# Altium footprint library Connector_Phoenix_MC_HighVoltage.PcbLib: 66 footprints (part 3 of 5)
Each footprint in its own frame and in the unit in brackets; x right, y up, seen from the top. Pads: shape width x height; smd on the part's side, far side on the other; paste and mask are expansions set on the pad; w line width, h text height; cw(c..) or ccw(c..) is an arc to the next point about the centre after c.
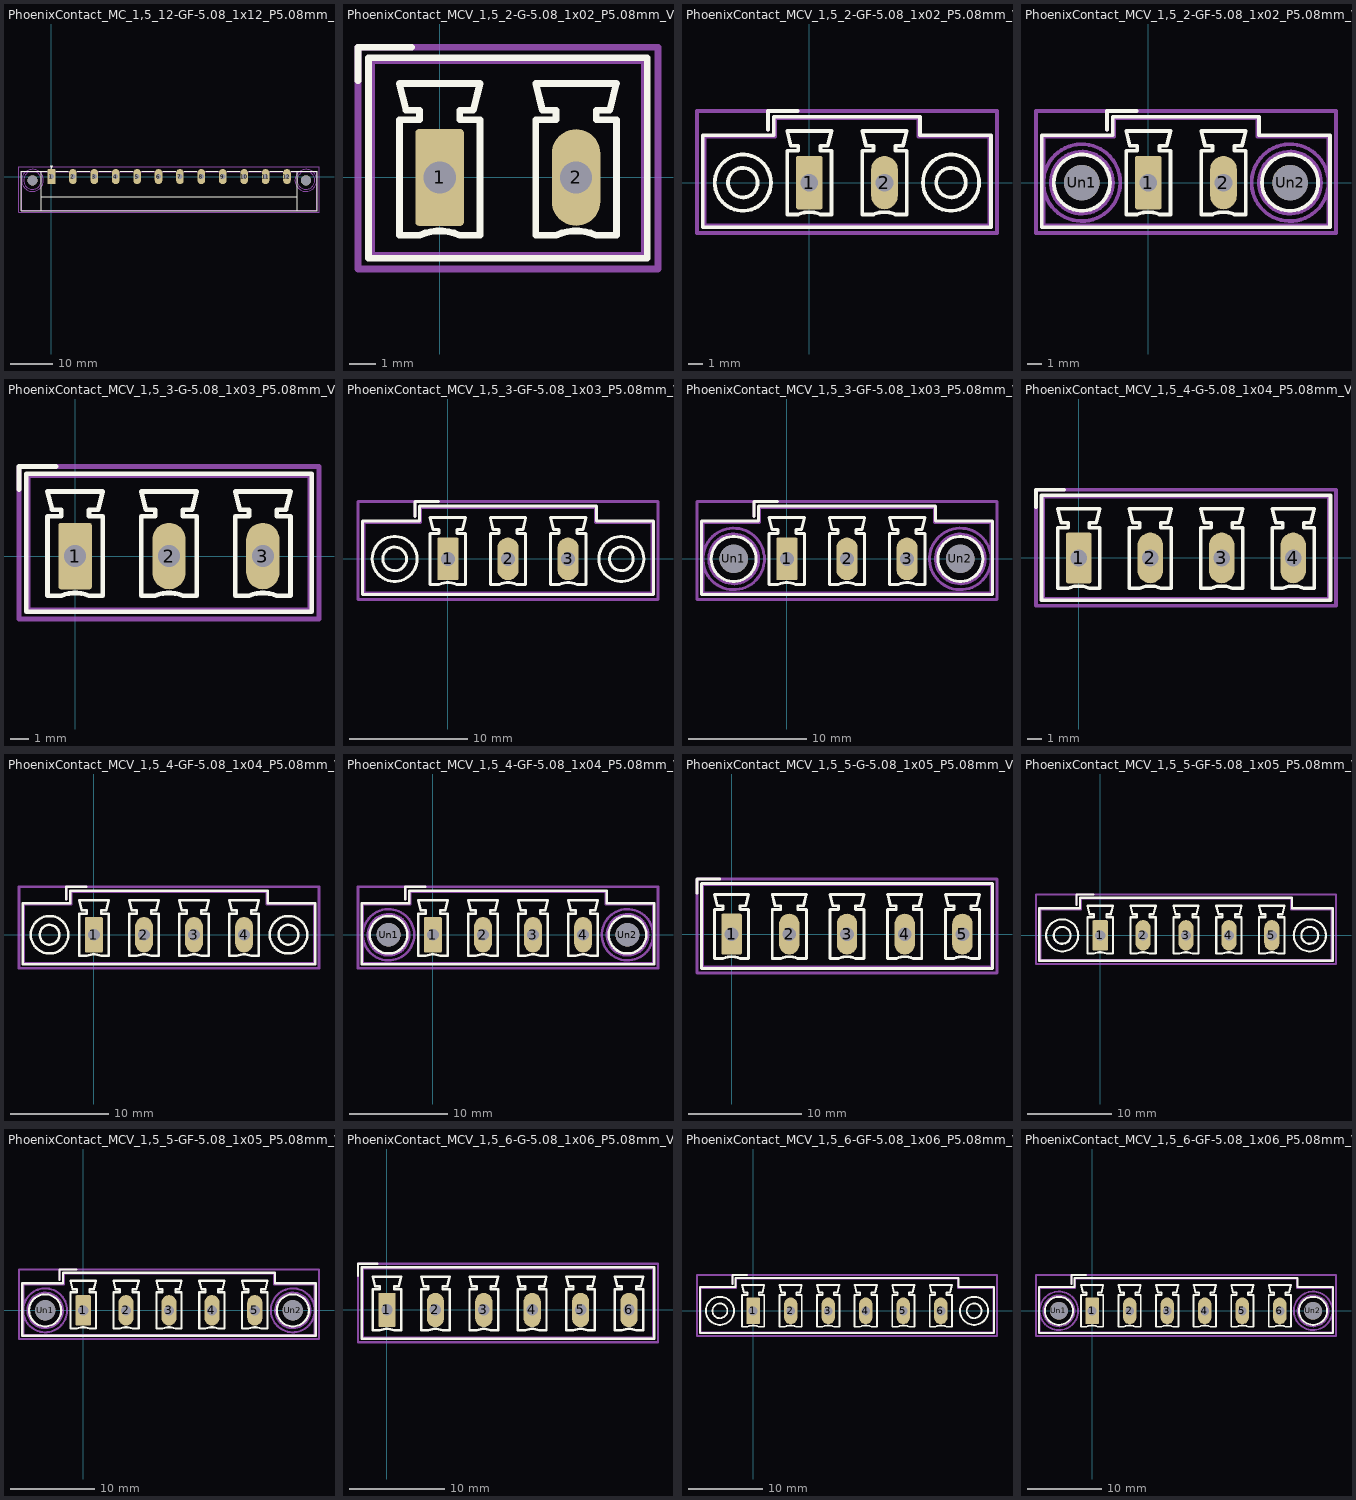
[diagram p2: the footprints below, top view; thin cyan lines are the x and y axes]

## PhoenixContact_MC_1,5_12-GF-5.08_1x12_P5.08mm_Horizontal_ThreadedFlange_MountHole [mm]
pads (14):
  rrect14% 1.8x3.6 hole 1.2: 1(0,0)
  rrect100% 1.8x3.6 hole 1.2: 2(5.08,0) 3(10.16,0) 4(15.24,0) 5(20.32,0) 6(25.4,0) 7(30.48,0) 8(35.56,0) 9(40.64,0) 10(45.72,0) 11(50.8,0) 12(55.88,0)
  round 2.4 hole 2.4: Un1(-4.5,-0.9) Un2(60.38,-0.9)
F.SilkS:
  lines w0.254: -2.41,-8.11 -2.41,1.31 ; -2.41,-4.8 58.29,-4.8 ; -1.05,1.31 -7.21,1.31 -7.21,-8.11 63.09,-8.11 63.09,1.31 56.93,1.31 ; 1.05,1.31 4.03,1.31 ; 6.13,1.31 9.11,1.31 ; 11.21,1.31 14.19,1.31 ; 16.29,1.31 19.27,1.31 ; 21.37,1.31 24.35,1.31 ; 26.45,1.31 29.43,1.31 ; 31.53,1.31 34.51,1.31 ; 36.61,1.31 39.59,1.31 ; 41.69,1.31 44.67,1.31 ; 46.77,1.31 49.75,1.31 ; 51.85,1.31 54.83,1.31 ; 58.29,-8.11 58.29,1.31 ; -0.3,2.6 0,2 0.3,2.6 -0.3,2.6
B.SilkS:
  circle w0.254: c60.38,-0.9 r2.21
  circle w0.254: c-4.5,-0.9 r2.21
Top Assembly:
  lines w0.254: -0.8,1.2 0,0 0.8,1.2 ; -7.1,-8 62.98,-8 62.98,1.2 -7.1,1.2 -7.1,-8
  text "'.Designator'" at 23.893,-0.34 h1
Bottom Assembly:
  circle w0.254: c60.38,-0.9 r2.1
  circle w0.254: c-4.5,-0.9 r2.1
Top Courtyard:
  lines w0.254: -7.71,-8.5 63.48,-8.5 63.48,2.3 -7.71,2.3 -7.71,-8.5
Bottom Courtyard:
  circle w0.254: c60.38,-0.9 r2.6
  circle w0.254: c-4.5,-0.9 r2.6
Top Designator:
  text ".Designator" at 20.267,-3.458 h1.52

## PhoenixContact_MCV_1,5_2-G-5.08_1x02_P5.08mm_Vertical [mm]
pads (2):
  rrect14% 1.8x3.6 hole 1.2: 1(0,0)
  rrect100% 1.8x3.6 hole 1.2: 2(5.08,0)
F.SilkS:
  lines w0.254: -3.04,3.6 -3.04,4.85 -1.04,4.85 ; 0.75,-2.15 ccw(c0,-3.85) -0.75,-2.15 -1.5,-2.15 -1.5,2.15 -0.75,2.15 -0.75,2.5 -1.25,2.5 -1.5,3.5 1.5,3.5 1.25,2.5 0.75,2.5 0.75,2.15 1.5,2.15 1.5,-2.15 0.75,-2.15 ; 5.83,-2.15 ccw(c5.08,-3.85) 4.33,-2.15 3.58,-2.15 3.58,2.15 4.33,2.15 4.33,2.5 3.83,2.5 3.58,3.5 6.58,3.5 6.33,2.5 5.83,2.5 5.83,2.15 6.58,2.15 6.58,-2.15 5.83,-2.15 ; -2.65,-3.01 7.73,-3.01 7.73,4.46 -2.65,4.46 -2.65,-3.01
Top Assembly:
  lines w0.254: -3.04,3.6 -3.04,4.85 -1.04,4.85 ; -2.54,-2.9 7.62,-2.9 7.62,4.35 -2.54,4.35 -2.54,-2.9
  text "'.Designator'" at -1.507,2.81 h1
Top Courtyard:
  lines w0.254: -3.04,-3.41 8.13,-3.41 8.13,4.85 -3.04,4.85 -3.04,-3.41
Top Designator:
  text ".Designator" at -5.073,0.212 h1.52

## PhoenixContact_MCV_1,5_2-GF-5.08_1x02_P5.08mm_Vertical_ThreadedFlange [mm]
pads (2):
  rrect14% 1.8x3.6 hole 1.2: 1(0,0)
  rrect100% 1.8x3.6 hole 1.2: 2(5.08,0)
F.SilkS:
  circle w0.254: c9.58,0 r1.9
  circle w0.254: c9.58,0 r1
  circle w0.254: c-4.5,0 r1.9
  circle w0.254: c-4.5,0 r1
  lines w0.254: -2.8,3.6 -2.8,4.85 -0.8,4.85 ; 0.75,-2.15 ccw(c0,-3.85) -0.75,-2.15 -1.5,-2.15 -1.5,2.15 -0.75,2.15 -0.75,2.5 -1.25,2.5 -1.5,3.5 1.5,3.5 1.25,2.5 0.75,2.5 0.75,2.15 1.5,2.15 1.5,-2.15 0.75,-2.15 ; 5.83,-2.15 ccw(c5.08,-3.85) 4.33,-2.15 3.58,-2.15 3.58,2.15 4.33,2.15 4.33,2.5 3.83,2.5 3.58,3.5 6.58,3.5 6.33,2.5 5.83,2.5 5.83,2.15 6.58,2.15 6.58,-2.15 5.83,-2.15 ; -7.21,-3.01 12.29,-3.01 12.29,3.21 7.49,3.21 7.49,4.46 -2.41,4.46 -2.41,3.21 -7.21,3.21 -7.21,-3.01
Top Assembly:
  lines w0.254: -2.8,3.6 -2.8,4.85 -0.8,4.85 ; -7.1,-2.9 12.18,-2.9 12.18,3.1 7.38,3.1 7.38,4.35 -2.3,4.35 -2.3,3.1 -7.1,3.1 -7.1,-2.9
  text "'.Designator'" at -1.507,2.81 h1
Top Courtyard:
  lines w0.254: -7.6,-3.41 12.69,-3.41 12.69,4.85 -7.6,4.85 -7.6,-3.41
Top Designator:
  text ".Designator" at -5.073,0.212 h1.52

## PhoenixContact_MCV_1,5_2-GF-5.08_1x02_P5.08mm_Vertical_ThreadedFlange_MountHole [mm]
pads (4):
  rrect14% 1.8x3.6 hole 1.2: 1(0,0)
  rrect100% 1.8x3.6 hole 1.2: 2(5.08,0)
  round 2.4 hole 2.4: Un1(-4.5,0) Un2(9.58,0)
F.SilkS:
  circle w0.254: c9.58,0 r1.9
  circle w0.254: c-4.5,0 r1.9
  lines w0.254: -2.8,3.6 -2.8,4.85 -0.8,4.85 ; 0.75,-2.15 ccw(c0,-3.85) -0.75,-2.15 -1.5,-2.15 -1.5,2.15 -0.75,2.15 -0.75,2.5 -1.25,2.5 -1.5,3.5 1.5,3.5 1.25,2.5 0.75,2.5 0.75,2.15 1.5,2.15 1.5,-2.15 0.75,-2.15 ; 5.83,-2.15 ccw(c5.08,-3.85) 4.33,-2.15 3.58,-2.15 3.58,2.15 4.33,2.15 4.33,2.5 3.83,2.5 3.58,3.5 6.58,3.5 6.33,2.5 5.83,2.5 5.83,2.15 6.58,2.15 6.58,-2.15 5.83,-2.15 ; -7.21,-3.01 12.29,-3.01 12.29,3.21 7.49,3.21 7.49,4.46 -2.41,4.46 -2.41,3.21 -7.21,3.21 -7.21,-3.01
B.SilkS:
  circle w0.254: c9.58,0 r2.21
  circle w0.254: c-4.5,0 r2.21
Top Assembly:
  lines w0.254: -2.8,3.6 -2.8,4.85 -0.8,4.85 ; -7.1,-2.9 12.18,-2.9 12.18,3.1 7.38,3.1 7.38,4.35 -2.3,4.35 -2.3,3.1 -7.1,3.1 -7.1,-2.9
  text "'.Designator'" at -1.507,2.81 h1
Bottom Assembly:
  circle w0.254: c9.58,0 r2.1
  circle w0.254: c-4.5,0 r2.1
Top Courtyard:
  lines w0.254: -7.6,-3.41 12.69,-3.41 12.69,4.85 -7.6,4.85 -7.6,-3.41
Bottom Courtyard:
  circle w0.254: c9.58,0 r2.6
  circle w0.254: c-4.5,0 r2.6
Top Designator:
  text ".Designator" at -5.073,0.212 h1.52

## PhoenixContact_MCV_1,5_3-G-5.08_1x03_P5.08mm_Vertical [mm]
pads (3):
  rrect14% 1.8x3.6 hole 1.2: 1(0,0)
  rrect100% 1.8x3.6 hole 1.2: 2(5.08,0) 3(10.16,0)
F.SilkS:
  lines w0.254: -3.04,3.6 -3.04,4.85 -1.04,4.85 ; 0.75,-2.15 ccw(c0,-3.85) -0.75,-2.15 -1.5,-2.15 -1.5,2.15 -0.75,2.15 -0.75,2.5 -1.25,2.5 -1.5,3.5 1.5,3.5 1.25,2.5 0.75,2.5 0.75,2.15 1.5,2.15 1.5,-2.15 0.75,-2.15 ; 5.83,-2.15 ccw(c5.08,-3.85) 4.33,-2.15 3.58,-2.15 3.58,2.15 4.33,2.15 4.33,2.5 3.83,2.5 3.58,3.5 6.58,3.5 6.33,2.5 5.83,2.5 5.83,2.15 6.58,2.15 6.58,-2.15 5.83,-2.15 ; 10.91,-2.15 ccw(c10.16,-3.85) 9.41,-2.15 8.66,-2.15 8.66,2.15 9.41,2.15 9.41,2.5 8.91,2.5 8.66,3.5 11.66,3.5 11.41,2.5 10.91,2.5 10.91,2.15 11.66,2.15 11.66,-2.15 10.91,-2.15 ; -2.65,-3.01 12.81,-3.01 12.81,4.46 -2.65,4.46 -2.65,-3.01
Top Assembly:
  lines w0.254: -3.04,3.6 -3.04,4.85 -1.04,4.85 ; -2.54,-2.9 12.7,-2.9 12.7,4.35 -2.54,4.35 -2.54,-2.9
  text "'.Designator'" at 1.033,2.81 h1
Top Courtyard:
  lines w0.254: -3.04,-3.41 13.2,-3.41 13.2,4.85 -3.04,4.85 -3.04,-3.41
Top Designator:
  text ".Designator" at -2.538,0.212 h1.52

## PhoenixContact_MCV_1,5_3-GF-5.08_1x03_P5.08mm_Vertical_ThreadedFlange [mm]
pads (3):
  rrect14% 1.8x3.6 hole 1.2: 1(0,0)
  rrect100% 1.8x3.6 hole 1.2: 2(5.08,0) 3(10.16,0)
F.SilkS:
  circle w0.254: c14.66,0 r1.9
  circle w0.254: c14.66,0 r1
  circle w0.254: c-4.5,0 r1.9
  circle w0.254: c-4.5,0 r1
  lines w0.254: -2.8,3.6 -2.8,4.85 -0.8,4.85 ; 0.75,-2.15 ccw(c0,-3.85) -0.75,-2.15 -1.5,-2.15 -1.5,2.15 -0.75,2.15 -0.75,2.5 -1.25,2.5 -1.5,3.5 1.5,3.5 1.25,2.5 0.75,2.5 0.75,2.15 1.5,2.15 1.5,-2.15 0.75,-2.15 ; 5.83,-2.15 ccw(c5.08,-3.85) 4.33,-2.15 3.58,-2.15 3.58,2.15 4.33,2.15 4.33,2.5 3.83,2.5 3.58,3.5 6.58,3.5 6.33,2.5 5.83,2.5 5.83,2.15 6.58,2.15 6.58,-2.15 5.83,-2.15 ; 10.91,-2.15 ccw(c10.16,-3.85) 9.41,-2.15 8.66,-2.15 8.66,2.15 9.41,2.15 9.41,2.5 8.91,2.5 8.66,3.5 11.66,3.5 11.41,2.5 10.91,2.5 10.91,2.15 11.66,2.15 11.66,-2.15 10.91,-2.15 ; -7.21,-3.01 17.37,-3.01 17.37,3.21 12.57,3.21 12.57,4.46 -2.41,4.46 -2.41,3.21 -7.21,3.21 -7.21,-3.01
Top Assembly:
  lines w0.254: -2.8,3.6 -2.8,4.85 -0.8,4.85 ; -7.1,-2.9 17.26,-2.9 17.26,3.1 12.46,3.1 12.46,4.35 -2.3,4.35 -2.3,3.1 -7.1,3.1 -7.1,-2.9
  text "'.Designator'" at 1.033,2.81 h1
Top Courtyard:
  lines w0.254: -7.6,-3.41 17.76,-3.41 17.76,4.85 -7.6,4.85 -7.6,-3.41
Top Designator:
  text ".Designator" at -2.538,0.212 h1.52

## PhoenixContact_MCV_1,5_3-GF-5.08_1x03_P5.08mm_Vertical_ThreadedFlange_MountHole [mm]
pads (5):
  rrect14% 1.8x3.6 hole 1.2: 1(0,0)
  rrect100% 1.8x3.6 hole 1.2: 2(5.08,0) 3(10.16,0)
  round 2.4 hole 2.4: Un1(-4.5,0) Un2(14.66,0)
F.SilkS:
  circle w0.254: c14.66,0 r1.9
  circle w0.254: c-4.5,0 r1.9
  lines w0.254: -2.8,3.6 -2.8,4.85 -0.8,4.85 ; 0.75,-2.15 ccw(c0,-3.85) -0.75,-2.15 -1.5,-2.15 -1.5,2.15 -0.75,2.15 -0.75,2.5 -1.25,2.5 -1.5,3.5 1.5,3.5 1.25,2.5 0.75,2.5 0.75,2.15 1.5,2.15 1.5,-2.15 0.75,-2.15 ; 5.83,-2.15 ccw(c5.08,-3.85) 4.33,-2.15 3.58,-2.15 3.58,2.15 4.33,2.15 4.33,2.5 3.83,2.5 3.58,3.5 6.58,3.5 6.33,2.5 5.83,2.5 5.83,2.15 6.58,2.15 6.58,-2.15 5.83,-2.15 ; 10.91,-2.15 ccw(c10.16,-3.85) 9.41,-2.15 8.66,-2.15 8.66,2.15 9.41,2.15 9.41,2.5 8.91,2.5 8.66,3.5 11.66,3.5 11.41,2.5 10.91,2.5 10.91,2.15 11.66,2.15 11.66,-2.15 10.91,-2.15 ; -7.21,-3.01 17.37,-3.01 17.37,3.21 12.57,3.21 12.57,4.46 -2.41,4.46 -2.41,3.21 -7.21,3.21 -7.21,-3.01
B.SilkS:
  circle w0.254: c14.66,0 r2.21
  circle w0.254: c-4.5,0 r2.21
Top Assembly:
  lines w0.254: -2.8,3.6 -2.8,4.85 -0.8,4.85 ; -7.1,-2.9 17.26,-2.9 17.26,3.1 12.46,3.1 12.46,4.35 -2.3,4.35 -2.3,3.1 -7.1,3.1 -7.1,-2.9
  text "'.Designator'" at 1.033,2.81 h1
Bottom Assembly:
  circle w0.254: c14.66,0 r2.1
  circle w0.254: c-4.5,0 r2.1
Top Courtyard:
  lines w0.254: -7.6,-3.41 17.76,-3.41 17.76,4.85 -7.6,4.85 -7.6,-3.41
Bottom Courtyard:
  circle w0.254: c14.66,0 r2.6
  circle w0.254: c-4.5,0 r2.6
Top Designator:
  text ".Designator" at -2.538,0.212 h1.52

## PhoenixContact_MCV_1,5_4-G-5.08_1x04_P5.08mm_Vertical [mm]
pads (4):
  rrect14% 1.8x3.6 hole 1.2: 1(0,0)
  rrect100% 1.8x3.6 hole 1.2: 2(5.08,0) 3(10.16,0) 4(15.24,0)
F.SilkS:
  lines w0.254: -3.04,3.6 -3.04,4.85 -1.04,4.85 ; 0.75,-2.15 ccw(c0,-3.85) -0.75,-2.15 -1.5,-2.15 -1.5,2.15 -0.75,2.15 -0.75,2.5 -1.25,2.5 -1.5,3.5 1.5,3.5 1.25,2.5 0.75,2.5 0.75,2.15 1.5,2.15 1.5,-2.15 0.75,-2.15 ; 5.83,-2.15 ccw(c5.08,-3.85) 4.33,-2.15 3.58,-2.15 3.58,2.15 4.33,2.15 4.33,2.5 3.83,2.5 3.58,3.5 6.58,3.5 6.33,2.5 5.83,2.5 5.83,2.15 6.58,2.15 6.58,-2.15 5.83,-2.15 ; 10.91,-2.15 ccw(c10.16,-3.85) 9.41,-2.15 8.66,-2.15 8.66,2.15 9.41,2.15 9.41,2.5 8.91,2.5 8.66,3.5 11.66,3.5 11.41,2.5 10.91,2.5 10.91,2.15 11.66,2.15 11.66,-2.15 10.91,-2.15 ; 15.99,-2.15 ccw(c15.24,-3.85) 14.49,-2.15 13.74,-2.15 13.74,2.15 14.49,2.15 14.49,2.5 13.99,2.5 13.74,3.5 16.74,3.5 16.49,2.5 15.99,2.5 15.99,2.15 16.74,2.15 16.74,-2.15 15.99,-2.15 ; -2.65,-3.01 17.89,-3.01 17.89,4.46 -2.65,4.46 -2.65,-3.01
Top Assembly:
  lines w0.254: -3.04,3.6 -3.04,4.85 -1.04,4.85 ; -2.54,-2.9 17.78,-2.9 17.78,4.35 -2.54,4.35 -2.54,-2.9
  text "'.Designator'" at 3.573,2.81 h1
Top Courtyard:
  lines w0.254: -3.04,-3.41 18.28,-3.41 18.28,4.85 -3.04,4.85 -3.04,-3.41
Top Designator:
  text ".Designator" at 0.002,0.212 h1.52

## PhoenixContact_MCV_1,5_4-GF-5.08_1x04_P5.08mm_Vertical_ThreadedFlange [mm]
pads (4):
  rrect14% 1.8x3.6 hole 1.2: 1(0,0)
  rrect100% 1.8x3.6 hole 1.2: 2(5.08,0) 3(10.16,0) 4(15.24,0)
F.SilkS:
  circle w0.254: c19.74,0 r1.9
  circle w0.254: c19.74,0 r1
  circle w0.254: c-4.5,0 r1.9
  circle w0.254: c-4.5,0 r1
  lines w0.254: -2.8,3.6 -2.8,4.85 -0.8,4.85 ; 0.75,-2.15 ccw(c0,-3.85) -0.75,-2.15 -1.5,-2.15 -1.5,2.15 -0.75,2.15 -0.75,2.5 -1.25,2.5 -1.5,3.5 1.5,3.5 1.25,2.5 0.75,2.5 0.75,2.15 1.5,2.15 1.5,-2.15 0.75,-2.15 ; 5.83,-2.15 ccw(c5.08,-3.85) 4.33,-2.15 3.58,-2.15 3.58,2.15 4.33,2.15 4.33,2.5 3.83,2.5 3.58,3.5 6.58,3.5 6.33,2.5 5.83,2.5 5.83,2.15 6.58,2.15 6.58,-2.15 5.83,-2.15 ; 10.91,-2.15 ccw(c10.16,-3.85) 9.41,-2.15 8.66,-2.15 8.66,2.15 9.41,2.15 9.41,2.5 8.91,2.5 8.66,3.5 11.66,3.5 11.41,2.5 10.91,2.5 10.91,2.15 11.66,2.15 11.66,-2.15 10.91,-2.15 ; 15.99,-2.15 ccw(c15.24,-3.85) 14.49,-2.15 13.74,-2.15 13.74,2.15 14.49,2.15 14.49,2.5 13.99,2.5 13.74,3.5 16.74,3.5 16.49,2.5 15.99,2.5 15.99,2.15 16.74,2.15 16.74,-2.15 15.99,-2.15 ; -7.21,-3.01 22.45,-3.01 22.45,3.21 17.65,3.21 17.65,4.46 -2.41,4.46 -2.41,3.21 -7.21,3.21 -7.21,-3.01
Top Assembly:
  lines w0.254: -2.8,3.6 -2.8,4.85 -0.8,4.85 ; -7.1,-2.9 22.34,-2.9 22.34,3.1 17.54,3.1 17.54,4.35 -2.3,4.35 -2.3,3.1 -7.1,3.1 -7.1,-2.9
  text "'.Designator'" at 3.573,2.81 h1
Top Courtyard:
  lines w0.254: -7.6,-3.41 22.84,-3.41 22.84,4.85 -7.6,4.85 -7.6,-3.41
Top Designator:
  text ".Designator" at 0.002,0.212 h1.52

## PhoenixContact_MCV_1,5_4-GF-5.08_1x04_P5.08mm_Vertical_ThreadedFlange_MountHole [mm]
pads (6):
  rrect14% 1.8x3.6 hole 1.2: 1(0,0)
  rrect100% 1.8x3.6 hole 1.2: 2(5.08,0) 3(10.16,0) 4(15.24,0)
  round 2.4 hole 2.4: Un1(-4.5,0) Un2(19.74,0)
F.SilkS:
  circle w0.254: c19.74,0 r1.9
  circle w0.254: c-4.5,0 r1.9
  lines w0.254: -2.8,3.6 -2.8,4.85 -0.8,4.85 ; 0.75,-2.15 ccw(c0,-3.85) -0.75,-2.15 -1.5,-2.15 -1.5,2.15 -0.75,2.15 -0.75,2.5 -1.25,2.5 -1.5,3.5 1.5,3.5 1.25,2.5 0.75,2.5 0.75,2.15 1.5,2.15 1.5,-2.15 0.75,-2.15 ; 5.83,-2.15 ccw(c5.08,-3.85) 4.33,-2.15 3.58,-2.15 3.58,2.15 4.33,2.15 4.33,2.5 3.83,2.5 3.58,3.5 6.58,3.5 6.33,2.5 5.83,2.5 5.83,2.15 6.58,2.15 6.58,-2.15 5.83,-2.15 ; 10.91,-2.15 ccw(c10.16,-3.85) 9.41,-2.15 8.66,-2.15 8.66,2.15 9.41,2.15 9.41,2.5 8.91,2.5 8.66,3.5 11.66,3.5 11.41,2.5 10.91,2.5 10.91,2.15 11.66,2.15 11.66,-2.15 10.91,-2.15 ; 15.99,-2.15 ccw(c15.24,-3.85) 14.49,-2.15 13.74,-2.15 13.74,2.15 14.49,2.15 14.49,2.5 13.99,2.5 13.74,3.5 16.74,3.5 16.49,2.5 15.99,2.5 15.99,2.15 16.74,2.15 16.74,-2.15 15.99,-2.15 ; -7.21,-3.01 22.45,-3.01 22.45,3.21 17.65,3.21 17.65,4.46 -2.41,4.46 -2.41,3.21 -7.21,3.21 -7.21,-3.01
B.SilkS:
  circle w0.254: c19.74,0 r2.21
  circle w0.254: c-4.5,0 r2.21
Top Assembly:
  lines w0.254: -2.8,3.6 -2.8,4.85 -0.8,4.85 ; -7.1,-2.9 22.34,-2.9 22.34,3.1 17.54,3.1 17.54,4.35 -2.3,4.35 -2.3,3.1 -7.1,3.1 -7.1,-2.9
  text "'.Designator'" at 3.573,2.81 h1
Bottom Assembly:
  circle w0.254: c19.74,0 r2.1
  circle w0.254: c-4.5,0 r2.1
Top Courtyard:
  lines w0.254: -7.6,-3.41 22.84,-3.41 22.84,4.85 -7.6,4.85 -7.6,-3.41
Bottom Courtyard:
  circle w0.254: c19.74,0 r2.6
  circle w0.254: c-4.5,0 r2.6
Top Designator:
  text ".Designator" at 0.002,0.212 h1.52

## PhoenixContact_MCV_1,5_5-G-5.08_1x05_P5.08mm_Vertical [mm]
pads (5):
  rrect14% 1.8x3.6 hole 1.2: 1(0,0)
  rrect100% 1.8x3.6 hole 1.2: 2(5.08,0) 3(10.16,0) 4(15.24,0) 5(20.32,0)
F.SilkS:
  lines w0.254: -3.04,3.6 -3.04,4.85 -1.04,4.85 ; 0.75,-2.15 ccw(c0,-3.85) -0.75,-2.15 -1.5,-2.15 -1.5,2.15 -0.75,2.15 -0.75,2.5 -1.25,2.5 -1.5,3.5 1.5,3.5 1.25,2.5 0.75,2.5 0.75,2.15 1.5,2.15 1.5,-2.15 0.75,-2.15 ; 5.83,-2.15 ccw(c5.08,-3.85) 4.33,-2.15 3.58,-2.15 3.58,2.15 4.33,2.15 4.33,2.5 3.83,2.5 3.58,3.5 6.58,3.5 6.33,2.5 5.83,2.5 5.83,2.15 6.58,2.15 6.58,-2.15 5.83,-2.15 ; 10.91,-2.15 ccw(c10.16,-3.85) 9.41,-2.15 8.66,-2.15 8.66,2.15 9.41,2.15 9.41,2.5 8.91,2.5 8.66,3.5 11.66,3.5 11.41,2.5 10.91,2.5 10.91,2.15 11.66,2.15 11.66,-2.15 10.91,-2.15 ; 15.99,-2.15 ccw(c15.24,-3.85) 14.49,-2.15 13.74,-2.15 13.74,2.15 14.49,2.15 14.49,2.5 13.99,2.5 13.74,3.5 16.74,3.5 16.49,2.5 15.99,2.5 15.99,2.15 16.74,2.15 16.74,-2.15 15.99,-2.15 ; 21.07,-2.15 ccw(c20.32,-3.85) 19.57,-2.15 18.82,-2.15 18.82,2.15 19.57,2.15 19.57,2.5 19.07,2.5 18.82,3.5 21.82,3.5 21.57,2.5 21.07,2.5 21.07,2.15 21.82,2.15 21.82,-2.15 21.07,-2.15 ; -2.65,-3.01 22.97,-3.01 22.97,4.46 -2.65,4.46 -2.65,-3.01
Top Assembly:
  lines w0.254: -3.04,3.6 -3.04,4.85 -1.04,4.85 ; -2.54,-2.9 22.86,-2.9 22.86,4.35 -2.54,4.35 -2.54,-2.9
  text "'.Designator'" at 6.113,2.81 h1
Top Courtyard:
  lines w0.254: -3.04,-3.41 23.36,-3.41 23.36,4.85 -3.04,4.85 -3.04,-3.41
Top Designator:
  text ".Designator" at 2.542,0.212 h1.52

## PhoenixContact_MCV_1,5_5-GF-5.08_1x05_P5.08mm_Vertical_ThreadedFlange [mm]
pads (5):
  rrect14% 1.8x3.6 hole 1.2: 1(0,0)
  rrect100% 1.8x3.6 hole 1.2: 2(5.08,0) 3(10.16,0) 4(15.24,0) 5(20.32,0)
F.SilkS:
  circle w0.254: c24.82,0 r1.9
  circle w0.254: c24.82,0 r1
  circle w0.254: c-4.5,0 r1.9
  circle w0.254: c-4.5,0 r1
  lines w0.254: -2.8,3.6 -2.8,4.85 -0.8,4.85 ; 0.75,-2.15 ccw(c0,-3.85) -0.75,-2.15 -1.5,-2.15 -1.5,2.15 -0.75,2.15 -0.75,2.5 -1.25,2.5 -1.5,3.5 1.5,3.5 1.25,2.5 0.75,2.5 0.75,2.15 1.5,2.15 1.5,-2.15 0.75,-2.15 ; 5.83,-2.15 ccw(c5.08,-3.85) 4.33,-2.15 3.58,-2.15 3.58,2.15 4.33,2.15 4.33,2.5 3.83,2.5 3.58,3.5 6.58,3.5 6.33,2.5 5.83,2.5 5.83,2.15 6.58,2.15 6.58,-2.15 5.83,-2.15 ; 10.91,-2.15 ccw(c10.16,-3.85) 9.41,-2.15 8.66,-2.15 8.66,2.15 9.41,2.15 9.41,2.5 8.91,2.5 8.66,3.5 11.66,3.5 11.41,2.5 10.91,2.5 10.91,2.15 11.66,2.15 11.66,-2.15 10.91,-2.15 ; 15.99,-2.15 ccw(c15.24,-3.85) 14.49,-2.15 13.74,-2.15 13.74,2.15 14.49,2.15 14.49,2.5 13.99,2.5 13.74,3.5 16.74,3.5 16.49,2.5 15.99,2.5 15.99,2.15 16.74,2.15 16.74,-2.15 15.99,-2.15 ; 21.07,-2.15 ccw(c20.32,-3.85) 19.57,-2.15 18.82,-2.15 18.82,2.15 19.57,2.15 19.57,2.5 19.07,2.5 18.82,3.5 21.82,3.5 21.57,2.5 21.07,2.5 21.07,2.15 21.82,2.15 21.82,-2.15 21.07,-2.15 ; -7.21,-3.01 27.53,-3.01 27.53,3.21 22.73,3.21 22.73,4.46 -2.41,4.46 -2.41,3.21 -7.21,3.21 -7.21,-3.01
Top Assembly:
  lines w0.254: -2.8,3.6 -2.8,4.85 -0.8,4.85 ; -7.1,-2.9 27.42,-2.9 27.42,3.1 22.62,3.1 22.62,4.35 -2.3,4.35 -2.3,3.1 -7.1,3.1 -7.1,-2.9
  text "'.Designator'" at 6.113,2.81 h1
Top Courtyard:
  lines w0.254: -7.6,-3.41 27.92,-3.41 27.92,4.85 -7.6,4.85 -7.6,-3.41
Top Designator:
  text ".Designator" at 2.542,0.212 h1.52

## PhoenixContact_MCV_1,5_5-GF-5.08_1x05_P5.08mm_Vertical_ThreadedFlange_MountHole [mm]
pads (7):
  rrect14% 1.8x3.6 hole 1.2: 1(0,0)
  rrect100% 1.8x3.6 hole 1.2: 2(5.08,0) 3(10.16,0) 4(15.24,0) 5(20.32,0)
  round 2.4 hole 2.4: Un1(-4.5,0) Un2(24.82,0)
F.SilkS:
  circle w0.254: c24.82,0 r1.9
  circle w0.254: c-4.5,0 r1.9
  lines w0.254: -2.8,3.6 -2.8,4.85 -0.8,4.85 ; 0.75,-2.15 ccw(c0,-3.85) -0.75,-2.15 -1.5,-2.15 -1.5,2.15 -0.75,2.15 -0.75,2.5 -1.25,2.5 -1.5,3.5 1.5,3.5 1.25,2.5 0.75,2.5 0.75,2.15 1.5,2.15 1.5,-2.15 0.75,-2.15 ; 5.83,-2.15 ccw(c5.08,-3.85) 4.33,-2.15 3.58,-2.15 3.58,2.15 4.33,2.15 4.33,2.5 3.83,2.5 3.58,3.5 6.58,3.5 6.33,2.5 5.83,2.5 5.83,2.15 6.58,2.15 6.58,-2.15 5.83,-2.15 ; 10.91,-2.15 ccw(c10.16,-3.85) 9.41,-2.15 8.66,-2.15 8.66,2.15 9.41,2.15 9.41,2.5 8.91,2.5 8.66,3.5 11.66,3.5 11.41,2.5 10.91,2.5 10.91,2.15 11.66,2.15 11.66,-2.15 10.91,-2.15 ; 15.99,-2.15 ccw(c15.24,-3.85) 14.49,-2.15 13.74,-2.15 13.74,2.15 14.49,2.15 14.49,2.5 13.99,2.5 13.74,3.5 16.74,3.5 16.49,2.5 15.99,2.5 15.99,2.15 16.74,2.15 16.74,-2.15 15.99,-2.15 ; 21.07,-2.15 ccw(c20.32,-3.85) 19.57,-2.15 18.82,-2.15 18.82,2.15 19.57,2.15 19.57,2.5 19.07,2.5 18.82,3.5 21.82,3.5 21.57,2.5 21.07,2.5 21.07,2.15 21.82,2.15 21.82,-2.15 21.07,-2.15 ; -7.21,-3.01 27.53,-3.01 27.53,3.21 22.73,3.21 22.73,4.46 -2.41,4.46 -2.41,3.21 -7.21,3.21 -7.21,-3.01
B.SilkS:
  circle w0.254: c24.82,0 r2.21
  circle w0.254: c-4.5,0 r2.21
Top Assembly:
  lines w0.254: -2.8,3.6 -2.8,4.85 -0.8,4.85 ; -7.1,-2.9 27.42,-2.9 27.42,3.1 22.62,3.1 22.62,4.35 -2.3,4.35 -2.3,3.1 -7.1,3.1 -7.1,-2.9
  text "'.Designator'" at 6.113,2.81 h1
Bottom Assembly:
  circle w0.254: c24.82,0 r2.1
  circle w0.254: c-4.5,0 r2.1
Top Courtyard:
  lines w0.254: -7.6,-3.41 27.92,-3.41 27.92,4.85 -7.6,4.85 -7.6,-3.41
Bottom Courtyard:
  circle w0.254: c24.82,0 r2.6
  circle w0.254: c-4.5,0 r2.6
Top Designator:
  text ".Designator" at 2.542,0.212 h1.52

## PhoenixContact_MCV_1,5_6-G-5.08_1x06_P5.08mm_Vertical [mm]
pads (6):
  rrect14% 1.8x3.6 hole 1.2: 1(0,0)
  rrect100% 1.8x3.6 hole 1.2: 2(5.08,0) 3(10.16,0) 4(15.24,0) 5(20.32,0) 6(25.4,0)
F.SilkS:
  lines w0.254: -3.04,3.6 -3.04,4.85 -1.04,4.85 ; 0.75,-2.15 ccw(c0,-3.85) -0.75,-2.15 -1.5,-2.15 -1.5,2.15 -0.75,2.15 -0.75,2.5 -1.25,2.5 -1.5,3.5 1.5,3.5 1.25,2.5 0.75,2.5 0.75,2.15 1.5,2.15 1.5,-2.15 0.75,-2.15 ; 5.83,-2.15 ccw(c5.08,-3.85) 4.33,-2.15 3.58,-2.15 3.58,2.15 4.33,2.15 4.33,2.5 3.83,2.5 3.58,3.5 6.58,3.5 6.33,2.5 5.83,2.5 5.83,2.15 6.58,2.15 6.58,-2.15 5.83,-2.15 ; 10.91,-2.15 ccw(c10.16,-3.85) 9.41,-2.15 8.66,-2.15 8.66,2.15 9.41,2.15 9.41,2.5 8.91,2.5 8.66,3.5 11.66,3.5 11.41,2.5 10.91,2.5 10.91,2.15 11.66,2.15 11.66,-2.15 10.91,-2.15 ; 15.99,-2.15 ccw(c15.24,-3.85) 14.49,-2.15 13.74,-2.15 13.74,2.15 14.49,2.15 14.49,2.5 13.99,2.5 13.74,3.5 16.74,3.5 16.49,2.5 15.99,2.5 15.99,2.15 16.74,2.15 16.74,-2.15 15.99,-2.15 ; 21.07,-2.15 ccw(c20.32,-3.85) 19.57,-2.15 18.82,-2.15 18.82,2.15 19.57,2.15 19.57,2.5 19.07,2.5 18.82,3.5 21.82,3.5 21.57,2.5 21.07,2.5 21.07,2.15 21.82,2.15 21.82,-2.15 21.07,-2.15 ; 26.15,-2.15 ccw(c25.4,-3.85) 24.65,-2.15 23.9,-2.15 23.9,2.15 24.65,2.15 24.65,2.5 24.15,2.5 23.9,3.5 26.9,3.5 26.65,2.5 26.15,2.5 26.15,2.15 26.9,2.15 26.9,-2.15 26.15,-2.15 ; -2.65,-3.01 28.05,-3.01 28.05,4.46 -2.65,4.46 -2.65,-3.01
Top Assembly:
  lines w0.254: -3.04,3.6 -3.04,4.85 -1.04,4.85 ; -2.54,-2.9 27.94,-2.9 27.94,4.35 -2.54,4.35 -2.54,-2.9
  text "'.Designator'" at 8.653,2.81 h1
Top Courtyard:
  lines w0.254: -3.04,-3.41 28.44,-3.41 28.44,4.85 -3.04,4.85 -3.04,-3.41
Top Designator:
  text ".Designator" at 5.082,0.212 h1.52

## PhoenixContact_MCV_1,5_6-GF-5.08_1x06_P5.08mm_Vertical_ThreadedFlange [mm]
pads (6):
  rrect14% 1.8x3.6 hole 1.2: 1(0,0)
  rrect100% 1.8x3.6 hole 1.2: 2(5.08,0) 3(10.16,0) 4(15.24,0) 5(20.32,0) 6(25.4,0)
F.SilkS:
  circle w0.254: c29.9,0 r1.9
  circle w0.254: c29.9,0 r1
  circle w0.254: c-4.5,0 r1.9
  circle w0.254: c-4.5,0 r1
  lines w0.254: -2.8,3.6 -2.8,4.85 -0.8,4.85 ; 0.75,-2.15 ccw(c0,-3.85) -0.75,-2.15 -1.5,-2.15 -1.5,2.15 -0.75,2.15 -0.75,2.5 -1.25,2.5 -1.5,3.5 1.5,3.5 1.25,2.5 0.75,2.5 0.75,2.15 1.5,2.15 1.5,-2.15 0.75,-2.15 ; 5.83,-2.15 ccw(c5.08,-3.85) 4.33,-2.15 3.58,-2.15 3.58,2.15 4.33,2.15 4.33,2.5 3.83,2.5 3.58,3.5 6.58,3.5 6.33,2.5 5.83,2.5 5.83,2.15 6.58,2.15 6.58,-2.15 5.83,-2.15 ; 10.91,-2.15 ccw(c10.16,-3.85) 9.41,-2.15 8.66,-2.15 8.66,2.15 9.41,2.15 9.41,2.5 8.91,2.5 8.66,3.5 11.66,3.5 11.41,2.5 10.91,2.5 10.91,2.15 11.66,2.15 11.66,-2.15 10.91,-2.15 ; 15.99,-2.15 ccw(c15.24,-3.85) 14.49,-2.15 13.74,-2.15 13.74,2.15 14.49,2.15 14.49,2.5 13.99,2.5 13.74,3.5 16.74,3.5 16.49,2.5 15.99,2.5 15.99,2.15 16.74,2.15 16.74,-2.15 15.99,-2.15 ; 21.07,-2.15 ccw(c20.32,-3.85) 19.57,-2.15 18.82,-2.15 18.82,2.15 19.57,2.15 19.57,2.5 19.07,2.5 18.82,3.5 21.82,3.5 21.57,2.5 21.07,2.5 21.07,2.15 21.82,2.15 21.82,-2.15 21.07,-2.15 ; 26.15,-2.15 ccw(c25.4,-3.85) 24.65,-2.15 23.9,-2.15 23.9,2.15 24.65,2.15 24.65,2.5 24.15,2.5 23.9,3.5 26.9,3.5 26.65,2.5 26.15,2.5 26.15,2.15 26.9,2.15 26.9,-2.15 26.15,-2.15 ; -7.21,-3.01 32.61,-3.01 32.61,3.21 27.81,3.21 27.81,4.46 -2.41,4.46 -2.41,3.21 -7.21,3.21 -7.21,-3.01
Top Assembly:
  lines w0.254: -2.8,3.6 -2.8,4.85 -0.8,4.85 ; -7.1,-2.9 32.5,-2.9 32.5,3.1 27.7,3.1 27.7,4.35 -2.3,4.35 -2.3,3.1 -7.1,3.1 -7.1,-2.9
  text "'.Designator'" at 8.653,2.81 h1
Top Courtyard:
  lines w0.254: -7.6,-3.41 33,-3.41 33,4.85 -7.6,4.85 -7.6,-3.41
Top Designator:
  text ".Designator" at 5.082,0.212 h1.52

## PhoenixContact_MCV_1,5_6-GF-5.08_1x06_P5.08mm_Vertical_ThreadedFlange_MountHole [mm]
pads (8):
  rrect14% 1.8x3.6 hole 1.2: 1(0,0)
  rrect100% 1.8x3.6 hole 1.2: 2(5.08,0) 3(10.16,0) 4(15.24,0) 5(20.32,0) 6(25.4,0)
  round 2.4 hole 2.4: Un1(-4.5,0) Un2(29.9,0)
F.SilkS:
  circle w0.254: c29.9,0 r1.9
  circle w0.254: c-4.5,0 r1.9
  lines w0.254: -2.8,3.6 -2.8,4.85 -0.8,4.85 ; 0.75,-2.15 ccw(c0,-3.85) -0.75,-2.15 -1.5,-2.15 -1.5,2.15 -0.75,2.15 -0.75,2.5 -1.25,2.5 -1.5,3.5 1.5,3.5 1.25,2.5 0.75,2.5 0.75,2.15 1.5,2.15 1.5,-2.15 0.75,-2.15 ; 5.83,-2.15 ccw(c5.08,-3.85) 4.33,-2.15 3.58,-2.15 3.58,2.15 4.33,2.15 4.33,2.5 3.83,2.5 3.58,3.5 6.58,3.5 6.33,2.5 5.83,2.5 5.83,2.15 6.58,2.15 6.58,-2.15 5.83,-2.15 ; 10.91,-2.15 ccw(c10.16,-3.85) 9.41,-2.15 8.66,-2.15 8.66,2.15 9.41,2.15 9.41,2.5 8.91,2.5 8.66,3.5 11.66,3.5 11.41,2.5 10.91,2.5 10.91,2.15 11.66,2.15 11.66,-2.15 10.91,-2.15 ; 15.99,-2.15 ccw(c15.24,-3.85) 14.49,-2.15 13.74,-2.15 13.74,2.15 14.49,2.15 14.49,2.5 13.99,2.5 13.74,3.5 16.74,3.5 16.49,2.5 15.99,2.5 15.99,2.15 16.74,2.15 16.74,-2.15 15.99,-2.15 ; 21.07,-2.15 ccw(c20.32,-3.85) 19.57,-2.15 18.82,-2.15 18.82,2.15 19.57,2.15 19.57,2.5 19.07,2.5 18.82,3.5 21.82,3.5 21.57,2.5 21.07,2.5 21.07,2.15 21.82,2.15 21.82,-2.15 21.07,-2.15 ; 26.15,-2.15 ccw(c25.4,-3.85) 24.65,-2.15 23.9,-2.15 23.9,2.15 24.65,2.15 24.65,2.5 24.15,2.5 23.9,3.5 26.9,3.5 26.65,2.5 26.15,2.5 26.15,2.15 26.9,2.15 26.9,-2.15 26.15,-2.15 ; -7.21,-3.01 32.61,-3.01 32.61,3.21 27.81,3.21 27.81,4.46 -2.41,4.46 -2.41,3.21 -7.21,3.21 -7.21,-3.01
B.SilkS:
  circle w0.254: c29.9,0 r2.21
  circle w0.254: c-4.5,0 r2.21
Top Assembly:
  lines w0.254: -2.8,3.6 -2.8,4.85 -0.8,4.85 ; -7.1,-2.9 32.5,-2.9 32.5,3.1 27.7,3.1 27.7,4.35 -2.3,4.35 -2.3,3.1 -7.1,3.1 -7.1,-2.9
  text "'.Designator'" at 8.653,2.81 h1
Bottom Assembly:
  circle w0.254: c29.9,0 r2.1
  circle w0.254: c-4.5,0 r2.1
Top Courtyard:
  lines w0.254: -7.6,-3.41 33,-3.41 33,4.85 -7.6,4.85 -7.6,-3.41
Bottom Courtyard:
  circle w0.254: c29.9,0 r2.6
  circle w0.254: c-4.5,0 r2.6
Top Designator:
  text ".Designator" at 5.082,0.212 h1.52